# EAGLE library part TCA9554 (library deiring-components)
IO Expander
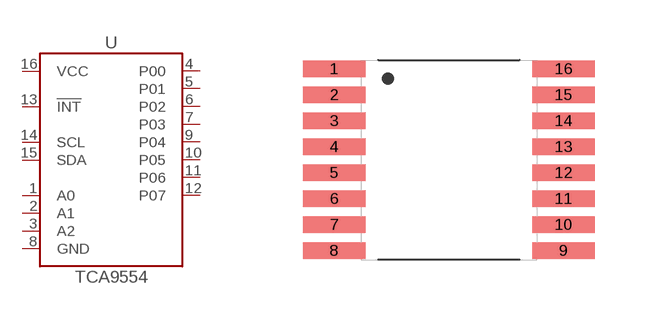
[diagram p32: symbol with the pads of TSSOP-16; footprint TSSOP-16]

Designator prefix U

## TCA9554-TSSOP-16 (LCSC: C477924; MF: Texas Instruments; MPN: TCA9554PWR; VALUE: TCA9554)  [TSSOP-16]
1  A0  in
2  A1  in
3  A2  in
4  P00
5  P01
6  P02
7  P03
8  GND  pwr
9  P04
10  P05
11  P06
12  P07
13  !INT  out
14  SCL  in
15  SDA
16  VCC  pwr

## Footprint TSSOP-16 (pad centres in mm)
smd 1.57 x 0.41: 1 -2.87,2.275; 2 -2.87,1.625; 3 -2.87,0.975; 4 -2.87,0.325; 5 -2.87,-0.325; 6 -2.87,-0.975; 7 -2.87,-1.625; 8 -2.87,-2.275; 9 2.87,-2.275; 10 2.87,-1.625; 11 2.87,-0.975; 12 2.87,-0.325; 13 2.87,0.325; 14 2.87,0.975; 15 2.87,1.625; 16 2.87,2.275